# Altium schematic symbol library D-BAT54T.Schlib: 1 symbol
Pins are listed as number, name and electrical type; pins without a type are passive.

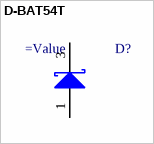
[diagram p0: symbol D-BAT54T]

## D-BAT54T
designator D?
=Description
pins: 1 A, 3 K